# EAGLE library part INA2321 (library op-amp)
OP-AMP - Dual microPower, Single-Supply, CMOS Instrumentation Amplifier
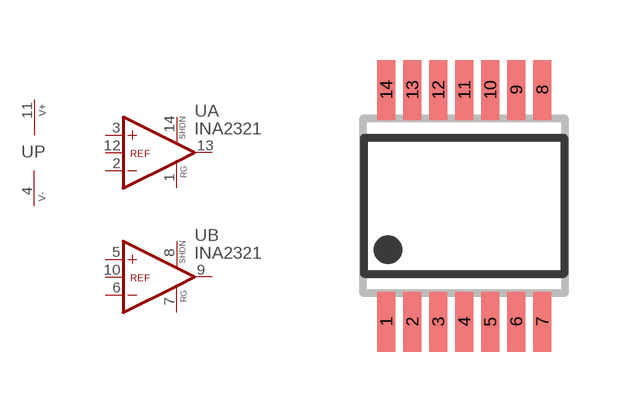
[diagram p21: symbol with the pads of TSSOP14; footprint TSSOP14]

Designator prefix U; gates A=INA321 B=INA321 P=PWRN_V+-

## INA2321PW  [TSSOP14]
1  A:RG  pas
2  A:-IN  in
3  A:+IN  in
4  P:V-  pwr
5  B:+IN  in
6  B:-IN  in
7  B:RG  pas
8  B:SHDN  pas
9  B:OUT  out
10  B:REF  in
11  P:V+  pwr
12  A:REF  in
13  A:OUT  out
14  A:SHDN  pas

## Footprint TSSOP14 (pad centres in mm)
Thin Shrink Small Outline Plastic 14
smd 0.45 x 1.5: 1 -1.95,-2.9; 2 -1.3,-2.9; 3 -0.65,-2.9; 4 0,-2.9; 5 0.65,-2.9; 6 1.3,-2.9; 7 1.95,-2.9; 8 1.95,2.9; 9 1.3,2.9; 10 0.65,2.9; 11 0,2.9; 12 -0.65,2.9; 13 -1.3,2.9; 14 -1.95,2.9